# Altium footprint library SOD.PcbLib: 2 footprints
Each footprint in its own frame and in the unit in brackets; x right, y up, seen from the top. Pads: shape width x height; smd on the part's side, far side on the other; paste and mask are expansions set on the pad; w line width, h text height; cw(c..) or ccw(c..) is an arc to the next point about the centre after c.
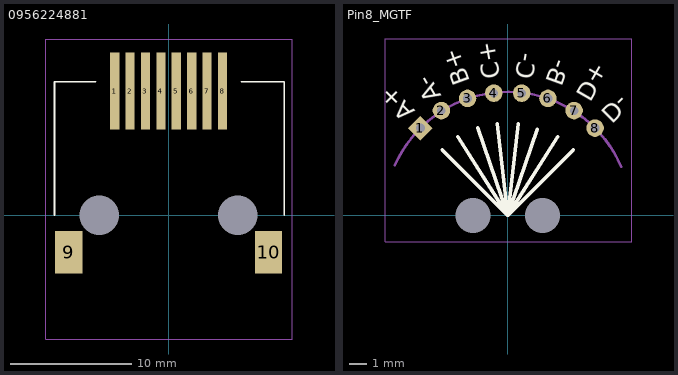
[diagram p0: the footprints below, top view; thin cyan lines are the x and y axes]

## 0956224881 [mm] "Ethernet_SMD_w/o LEDs"
pads (12):
  rect 0.76x6.35 smd: 1(-4.445,10.225) 2(-3.175,10.225) 3(-1.905,10.225) 4(-0.635,10.225) 5(0.635,10.225) 6(1.905,10.225) 7(3.175,10.225) 8(4.445,10.225)
  rect 2.24x3.5 smd: 9(-8.235,-3.05) 10(8.235,-3.05)
  round 0 hole 3.25 unplated: 11(-5.715,0) 12(5.715,0)
Top Overlay:
  lines w0.15: -9.398,0 -9.398,11 -6,11 ; 6,11 9.525,11 9.525,0
Mechanical 15:
  lines w0.05: -10.135,-10.2 -10.135,14.527 10.2,14.527 10.2,-10.2 -10.135,-10.2
3D body "956224881.stp": height 13.1, standoff -2.9, extent -9.055,-8.175 9.055,12.725

## Pin8_MGTF [mm] "Ethernet_SMD_w/o LEDs"
pads (10):
  rect 1x1 hole 0.5 rot 45: 1(-5,5)
  round 1 hole 0.5: 2(-3.8,6) 3(-2.3,6.7) 4(-0.8,7) 5(0.8,7) 6(2.3,6.7) 7(3.8,6) 8(5,5)
  round 0 hole 2 unplated: 11(-2,0) 12(2,0)
Top Overlay:
  lines w0.2: -3.75,3.75 0,0 ; -2.85,4.5 0,0 ; -1.725,5.025 0,0 ; -0.6,5.25 0,0 ; 0.6,5.25 0,0 ; 1.694,4.934 0,0 ; 2.85,4.5 0,0 ; 3.75,3.75 0,0
  text "A+" at -5.27,6 h1
  text "A-" at -3.764,6.844 h1
  text "B+" at -2.154,7.672 h1
  text "C+" at -0.439,7.897 h1
  text "D-" at 5.27,5.9 h1
  text "D+" at 3.864,6.944 h1
  text "B-" at 2.154,7.672 h1
  text "C-" at 0.439,7.897 h1
Mechanical 1:
  lines w0.15: -6.462,2.872 cw(c0,0) 6.499,2.785
Mechanical 15:
  lines w0.05: -7,-1.5 -7,10.1 7.1,10.1 7.1,-1.5 -7,-1.5